# EAGLE library part LT3082ETS8TRMPBF (library power_distribution)
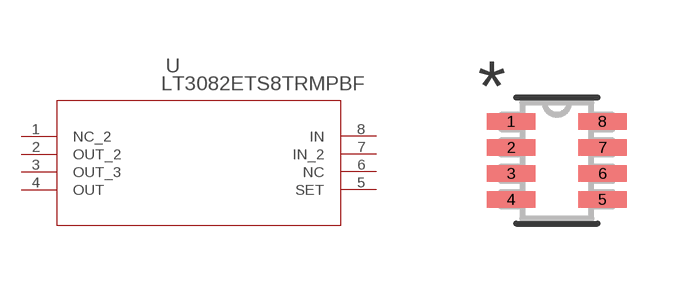
[diagram p12: symbol with the pads of TSOT-23_TS8; footprint TSOT-23_TS8]

Designator prefix U

## LT3082ETS8TRMPBF (MF: Linear Technology; MPN: lt3082ets8#trmpbf)  [TSOT-23_TS8]
1  NC_2  nc
2  OUT_2  out
3  OUT_3  out
4  OUT  out
5  SET  in
6  NC  nc
7  IN_2  in
8  IN  in

## Footprint TSOT-23_TS8 (pad centres in mm)
smd 1.219 x 0.406: 1 -1.143,0.975; 2 -1.143,0.325; 3 -1.143,-0.325; 4 -1.143,-0.975; 5 1.143,-0.975; 6 1.143,-0.325; 7 1.143,0.325; 8 1.143,0.975